# Altium footprint library Lib.PcbLib: 32 footprints (part 2 of 2)
Each footprint in its own frame and in the unit in brackets; x right, y up, seen from the top. Pads: shape width x height; smd on the part's side, far side on the other; paste and mask are expansions set on the pad; w line width, h text height; cw(c..) or ccw(c..) is an arc to the next point about the centre after c.
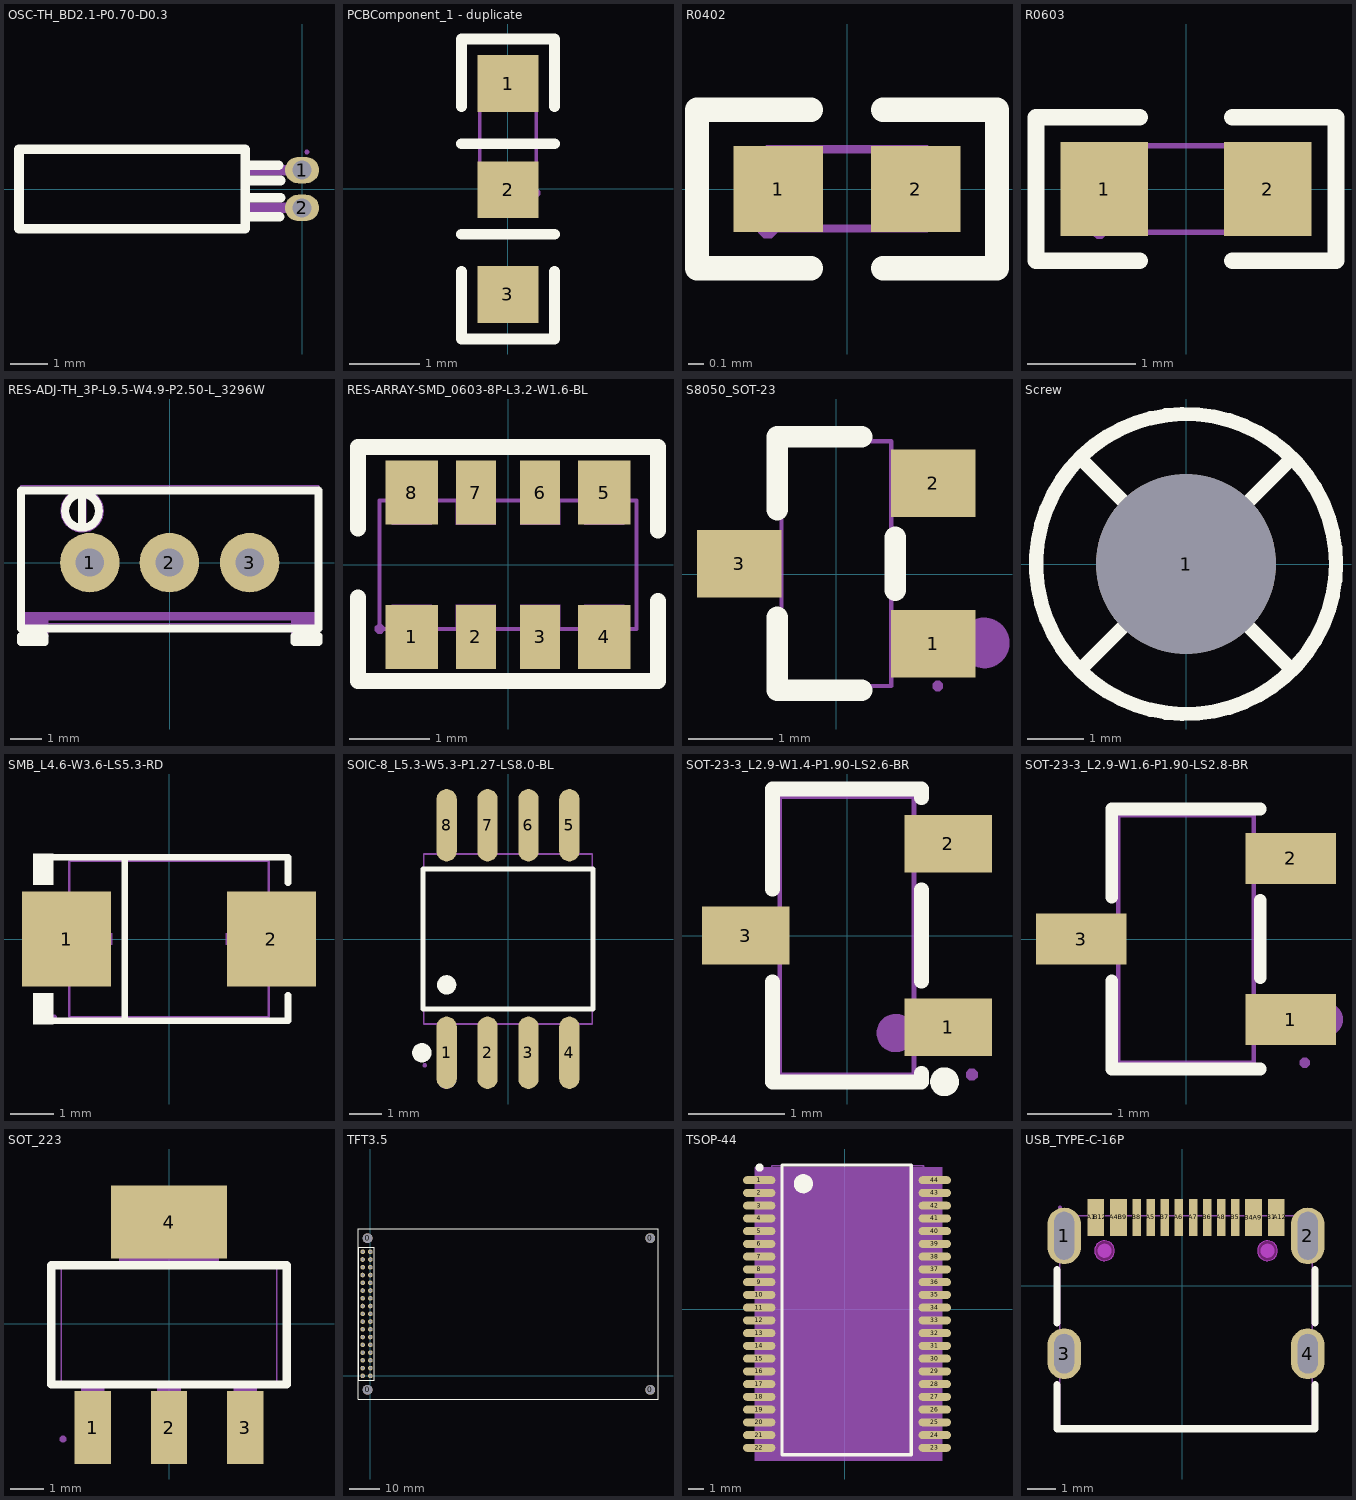
[diagram p1: the footprints below, top view; thin cyan lines are the x and y axes]

## OSC-TH_BD2.1-P0.70-D0.3 [mm]
pads (2):
  oval 0.9x0.7 hole 0.5 paste-2539.97 mask+0.05: 1(0,0.5) 2(0,-0.5)
Top Overlay:
  lines w0.254: -1.5,-0.733 -0.586,-0.733 ; -1.5,-0.23 -0.57,-0.23 ; -1.5,0.227 -0.569,0.227 ; -1.5,0.626 -0.618,0.626 ; -7.5,-1.05 -1.5,-1.05 -1.5,1.05 -7.5,1.05 -7.5,-1.05
Mechanical 4:
  region: -7.49,0.94 -7.49,-0.99 -7.46,-0.99 -7.46,0.94
  region: -1.49,-1.02 -7.49,-1.02 -7.49,-0.99 -1.49,-0.99
  region: -7.49,0.98 -1.49,0.98 -1.49,0.94 -7.49,0.94
Mechanical 5:
  lines w0.051: -7.49,-1.02 -1.49,-1.02 -1.49,0.98 -7.49,0.98 -7.49,-1.02
Mechanical 6:
  region: 0.07,0.98 0.07,1.005 0.105,1.04 0.155,1.04 0.19,1.005 0.19,0.98 0.19,0.955 0.155,0.92 0.105,0.92 0.07,0.955 0.07,0.98
Mechanical 7:
  region: -0.13,0.5 -0.13,0.554 -0.054,0.63 0.054,0.63 0.13,0.554 0.13,0.5 0.13,0.446 0.054,0.37 -0.054,0.37 -0.13,0.446 -0.13,0.5
  region: -0.13,-0.5 -0.13,-0.446 -0.054,-0.37 0.054,-0.37 0.13,-0.446 0.13,-0.5 0.13,-0.554 0.054,-0.63 -0.054,-0.63 -0.13,-0.554 -0.13,-0.5
Mechanical 8:
  region: -1.51,-0.37 -1.51,-0.63 0.13,-0.63 0.13,-0.37
  region: -1.51,0.63 -1.51,0.37 0.13,0.37 0.13,0.63

## PCBComponent_1 - duplicate [mm]
pads (3):
  rect 0.864x0.806 smd paste-100 mask+0.051: 1(0,1.496) 2(0,-0.01) 3(0,-1.496)
Top Overlay:
  lines w0.152: -0.661,-1.169 -0.661,-2.128 0.661,-2.128 0.661,-1.169 ; -0.661,-0.642 0.661,-0.642 ; -0.661,0.642 0.661,0.642 ; -0.661,1.169 -0.661,2.128 0.661,2.128 0.661,1.169
Top Paste:
  region: -0.4,-1.098 -0.172,-1.098 -0.172,-1.478 0.158,-1.478 0.158,-1.098 0.4,-1.098 0.45,-1.148 0.45,-1.938 0.4,-1.988 -0.4,-1.988 -0.45,-1.938 -0.45,-1.148
  region: -0.45,0.452 -0.45,-0.348 -0.4,-0.398 -0.172,-0.398 -0.172,-0.028 0.158,-0.028 0.158,-0.398 0.4,-0.398 0.45,-0.348 0.45,0.452 0.4,0.502 -0.4,0.502
  region: -0.4,0.388 -0.172,0.388 -0.172,0.008 0.158,0.008 0.158,0.388 0.4,0.388 0.45,0.338 0.45,-0.452 0.4,-0.502 -0.4,-0.502 -0.45,-0.452 -0.45,0.338
  region: -0.45,1.938 -0.45,1.138 -0.4,1.088 -0.172,1.088 -0.172,1.458 0.158,1.458 0.158,1.088 0.4,1.088 0.45,1.138 0.45,1.938 0.4,1.988 -0.4,1.988
Mechanical 5:
  lines w0.051: -0.4,-0.057 -0.4,1.543 0.4,1.543 0.4,-0.057 -0.4,-0.057
Mechanical 6:
  region: 0.34,-0.057 0.34,-0.082 0.375,-0.117 0.425,-0.117 0.46,-0.082 0.46,-0.057 0.46,-0.032 0.425,0.003 0.375,0.003 0.34,-0.032 0.34,-0.057
Mechanical 7:
  region: 0.4,1.543 -0.4,1.543 -0.4,1.243 0.4,1.243
  region: 0.4,-0.057 -0.4,-0.057 -0.4,0.243 0.4,0.243

## R0402 [mm]
pads (2):
  rect 0.566x0.54 smd paste-100 mask+0.051: 1(-0.433,0) 2(0.433,0)
Top Overlay:
  lines w0.152: -0.226,-0.499 -0.944,-0.499 -0.944,0.499 -0.226,0.499 ; 0.226,-0.499 0.944,-0.499 0.944,0.499 0.226,0.499
Top Paste:
  region: -0.135,-0.23 -0.135,0.23 -0.175,0.27 -0.676,0.27 -0.716,0.23 -0.716,-0.23 -0.676,-0.27 -0.175,-0.27
  region: 0.135,-0.23 0.135,0.23 0.175,0.27 0.676,0.27 0.716,0.23 0.716,-0.23 0.676,-0.27 0.175,-0.27
Mechanical 5:
  lines w0.051: -0.5,-0.25 0.5,-0.25 0.5,0.25 -0.5,0.25 -0.5,-0.25
Mechanical 6:
  region: -0.56,-0.25 -0.56,-0.275 -0.525,-0.31 -0.475,-0.31 -0.44,-0.275 -0.44,-0.25 -0.44,-0.225 -0.475,-0.19 -0.525,-0.19 -0.56,-0.225 -0.56,-0.25
Mechanical 7:
  region: -0.249,0.25 -0.249,-0.25 -0.499,-0.25 -0.499,0.25
  region: 0.251,-0.25 0.251,0.25 0.501,0.25 0.501,-0.25

## R0603 [mm]
pads (2):
  rect 0.806x0.864 smd paste-100 mask+0.051: 1(-0.753,0) 2(0.753,0)
Top Overlay:
  lines w0.152: -0.426,-0.661 -1.385,-0.661 -1.385,0.661 -0.426,0.661 ; 0.426,-0.661 1.385,-0.661 1.385,0.661 0.426,0.661
Top Paste:
  region: -0.355,0.4 -0.355,0.172 -0.735,0.172 -0.735,-0.158 -0.355,-0.158 -0.355,-0.4 -0.405,-0.45 -1.195,-0.45 -1.245,-0.4 -1.245,0.4 -1.195,0.45 -0.405,0.45
  region: 1.195,0.45 0.395,0.45 0.345,0.4 0.345,0.172 0.715,0.172 0.715,-0.158 0.345,-0.158 0.345,-0.4 0.395,-0.45 1.195,-0.45 1.245,-0.4 1.245,0.4
Mechanical 5:
  lines w0.051: -0.8,-0.4 0.8,-0.4 0.8,0.4 -0.8,0.4 -0.8,-0.4
Mechanical 6:
  region: -0.74,-0.4 -0.74,-0.425 -0.775,-0.46 -0.825,-0.46 -0.86,-0.425 -0.86,-0.4 -0.86,-0.375 -0.825,-0.34 -0.775,-0.34 -0.74,-0.375 -0.74,-0.4
Mechanical 7:
  region: 0.8,-0.4 0.8,0.4 0.5,0.4 0.5,-0.4
  region: -0.8,-0.4 -0.8,0.4 -0.5,0.4 -0.5,-0.4

## RES-ADJ-TH_3P-L9.5-W4.9-P2.50-L_3296W [mm]
pads (3):
  round 1.9 hole 0.9: 1(-2.55,0) 2(-0.01,0) 3(2.55,0)
Top Overlay:
  lines w0.254: -2.804,1.27 -2.804,1.651 ; -2.804,2.189 ccw(c-2.799,1.651) -2.794,2.189 ; -2.804,1.651 -2.804,2.032 -2.804,1.651 ; -4.75,-2.54 -4.75,-2.34 -3.988,-2.34 -3.988,-2.54 -4.75,-2.54 ; -4.75,-2.1 -4.75,2.3 4.75,2.3 4.75,-2.1 -4.75,-2.1 ; 3.988,-2.54 3.988,-2.34 4.75,-2.34 4.75,-2.54 3.988,-2.54
Mechanical 4:
  circle w0.254: c-2.794,1.651 r0.568
  region: -4.762,-2.349 -4.762,-1.587 4.763,-1.587 4.763,-2.476 3.874,-2.476 3.874,-1.841 -3.873,-1.841 -3.873,-2.349
  region: -2.921,2.159 -2.667,2.159 -2.667,1.143 -2.921,1.143
Mechanical 5:
  lines w0.051: -4.75,-2.4 -4.75,2.45 4.75,2.45 4.75,-2.4 3.937,-2.4 3.937,-1.95 -3.937,-1.95 -3.937,-2.4 -4.75,-2.4
Mechanical 6:
  region: -4.75,-2.34 -4.725,-2.34 -4.69,-2.375 -4.69,-2.425 -4.725,-2.46 -4.75,-2.46 -4.775,-2.46 -4.81,-2.425 -4.81,-2.375 -4.775,-2.34 -4.75,-2.34
Mechanical 7:
  region: 2.55,0.25 2.6,0.25 2.692,0.212 2.762,0.142 2.8,0.05 2.8,-0.05 2.762,-0.142 2.692,-0.212 2.6,-0.25 2.55,-0.25 2.5,-0.25 2.408,-0.212 2.338,-0.142 2.3,-0.05 2.3,0.05 2.338,0.142 2.408,0.212 2.5,0.25 2.55,0.25
  region: -2.55,0.25 -2.5,0.25 -2.408,0.212 -2.338,0.142 -2.3,0.05 -2.3,-0.05 -2.338,-0.142 -2.408,-0.212 -2.5,-0.25 -2.55,-0.25 -2.6,-0.25 -2.692,-0.212 -2.762,-0.142 -2.8,-0.05 -2.8,0.05 -2.762,0.142 -2.692,0.212 -2.6,0.25 -2.55,0.25
  region: -0.01,0.25 0.04,0.25 0.132,0.212 0.202,0.142 0.24,0.05 0.24,-0.05 0.202,-0.142 0.132,-0.212 0.04,-0.25 -0.01,-0.25 -0.06,-0.25 -0.152,-0.212 -0.222,-0.142 -0.26,-0.05 -0.26,0.05 -0.222,0.142 -0.152,0.212 -0.06,0.25 -0.01,0.25

## RES-ARRAY-SMD_0603-8P-L3.2-W1.6-BL [mm]
pads (8):
  rect 0.65x0.8 smd: 1(-1.2,-0.9) 4(1.2,-0.9) 5(1.2,0.9) 8(-1.2,0.9)
  rect 0.5x0.8 smd: 2(-0.4,-0.9) 3(0.4,-0.9) 6(0.4,0.9) 7(-0.4,0.9)
Top Overlay:
  lines w0.2: -1.87,-0.41 -1.87,-1.45 1.87,-1.45 1.87,-0.45 ; -1.87,0.45 -1.87,1.47 1.87,1.47 1.87,0.43
Mechanical 5:
  lines w0.051: -1.6,-0.8 1.6,-0.8 1.6,0.8 -1.6,0.8 -1.6,-0.8
Mechanical 6:
  region: -1.66,-0.8 -1.66,-0.825 -1.625,-0.86 -1.575,-0.86 -1.54,-0.825 -1.54,-0.8 -1.54,-0.775 -1.575,-0.74 -1.625,-0.74 -1.66,-0.775 -1.66,-0.8
Mechanical 7:
  region: 0.95,0.5 0.95,0.8 1.45,0.8 1.45,0.5
  region: -0.65,0.5 -0.65,0.8 -0.15,0.8 -0.15,0.5
  region: 0.95,-0.8 0.95,-0.5 1.45,-0.5 1.45,-0.8
  region: 0.15,0.5 0.15,0.8 0.65,0.8 0.65,0.5
  region: 0.15,-0.8 0.15,-0.5 0.65,-0.5 0.65,-0.8
  region: -0.65,-0.8 -0.65,-0.5 -0.15,-0.5 -0.15,-0.8
  region: -1.45,0.5 -1.45,0.8 -0.95,0.8 -0.95,0.5
  region: -1.45,-0.8 -1.45,-0.5 -0.95,-0.5 -0.95,-0.8

## S8050_SOT-23 [mm]
pads (3):
  rect 1x0.8 smd paste+0 mask+0.051: 1(1.15,-0.823) 2(1.15,1.077) 3(-1.15,0.127)
Top Overlay:
  lines w0.254: -0.7,-0.509 -0.7,-1.373 0.3,-1.373 ; -0.7,0.763 -0.7,1.627 0.3,1.627 ; 0.7,-0.187 0.7,0.441
Mechanical 4:
  circle w0.3: c1.753,-0.813 r0.15
Mechanical 5:
  lines w0.051: -0.65,-1.323 0.65,-1.323 0.65,1.577 -0.65,1.577 -0.65,-1.323
Mechanical 6:
  region: 1.2,-1.383 1.175,-1.383 1.14,-1.348 1.14,-1.298 1.175,-1.263 1.2,-1.263 1.225,-1.263 1.26,-1.298 1.26,-1.348 1.225,-1.383 1.2,-1.383
Mechanical 7:
  region: -1.2,-0.073 -1.2,0.327 -0.8,0.327 -0.8,-0.073
  region: 0.8,0.877 0.8,1.277 1.2,1.277 1.2,0.877
  region: 0.8,-1.023 0.8,-0.623 1.2,-0.623 1.2,-1.023
Mechanical 8:
  region: -0.81,-0.073 -0.81,0.327 -0.64,0.327 -0.64,-0.073
  region: 0.64,0.877 0.64,1.277 0.81,1.277 0.81,0.877
  region: 0.64,-1.023 0.64,-0.623 0.81,-0.623 0.81,-1.023

## Screw [mil]
pads (1):
  round 126 hole 126 paste-99999 mask+4: 1(0,0)
Top Overlay:
  circle w10: c0,0 r105
  lines w10: -72.5,-72.5 72.5,72.5 ; -72.5,72.5 72.5,-72.5

## SMB_L4.6-W3.6-LS5.3-RD [mm]
pads (2):
  rect 2.047x2.192 smd: 1(-2.361,0) 2(2.361,0)
Top Overlay:
  region: -2.668,1.962 -2.668,1.249 -3.125,1.249 -3.125,1.962
  region: -2.668,-1.962 -2.668,-1.249 -3.125,-1.249 -3.125,-1.962
  lines w0.152: -2.744,-1.886 2.744,-1.886 2.744,-1.299 ; -2.744,1.886 2.744,1.886 2.744,1.299 ; -1.016,-1.886 -1.016,1.886
Mechanical 4:
  region: -2.396,-0.136 -2.396,0.136 -1.31,0.136 -1.31,-0.136
  region: 2.396,-0.136 2.396,0.136 1.31,0.136 1.31,-0.136
  region: 1.989,-0.905 1.989,0.905 1.717,0.905 1.717,-0.905
Mechanical 5:
  lines w0.051: -2.3,-1.8 -2.3,1.8 2.3,1.8 2.3,-1.8 -2.3,-1.8
Mechanical 6:
  region: -2.649,-1.74 -2.625,-1.74 -2.59,-1.775 -2.59,-1.825 -2.625,-1.86 -2.649,-1.86 -2.674,-1.86 -2.709,-1.825 -2.709,-1.775 -2.674,-1.74 -2.649,-1.74
Mechanical 7:
  region: -2.649,-1.015 -2.649,1.015 -1.509,1.015 -1.509,-1.015
  region: 2.649,-1.015 2.649,1.015 1.509,1.015 1.509,-1.015

## SOIC-8_L5.3-W5.3-P1.27-LS8.0-BL [mm]
pads (8):
  oval 0.63x2.25 smd: 1(-1.905,-3.53) 2(-0.635,-3.53) 3(0.635,-3.53) 4(1.905,-3.53) 5(1.905,3.53) 6(0.635,3.53) 7(-0.635,3.53) 8(-1.905,3.53)
Top Overlay:
  circle w0.3: c-2.672,-3.53 r0.15
  circle w0.3: c-1.905,-1.424 r0.15
  lines w0.152: -2.639,-2.176 2.639,-2.176 2.639,2.176 -2.639,2.176 -2.639,-2.176
Mechanical 4:
  circle w0.3: c-1.905,-4.35 r0.15
Mechanical 5:
  lines w0.051: -2.615,-2.64 2.615,-2.64 2.615,2.64 -2.615,2.64 -2.615,-2.64
Mechanical 6:
  region: -2.585,-3.86 -2.56,-3.86 -2.525,-3.895 -2.525,-3.945 -2.56,-3.98 -2.585,-3.98 -2.61,-3.98 -2.645,-3.945 -2.645,-3.895 -2.61,-3.86 -2.585,-3.86
Mechanical 7:
  region: 1.68,3.95 1.68,3.3 2.13,3.3 2.13,3.95
  region: 0.41,3.95 0.41,3.3 0.86,3.3 0.86,3.95
  region: -0.86,3.95 -0.86,3.3 -0.41,3.3 -0.41,3.95
  region: -2.13,3.95 -2.13,3.3 -1.68,3.3 -1.68,3.95
  region: 1.68,-3.95 1.68,-3.3 2.13,-3.3 2.13,-3.95
  region: 0.41,-3.95 0.41,-3.3 0.86,-3.3 0.86,-3.95
  region: -0.86,-3.95 -0.86,-3.3 -0.41,-3.3 -0.41,-3.95
  region: -2.13,-3.95 -2.13,-3.3 -1.68,-3.3 -1.68,-3.95
Mechanical 8:
  region: 1.68,3.31 1.68,2.595 2.13,2.595 2.13,3.31
  region: 0.41,3.31 0.41,2.595 0.86,2.595 0.86,3.31
  region: -0.86,3.31 -0.86,2.595 -0.41,2.595 -0.41,3.31
  region: -2.13,3.31 -2.13,2.595 -1.68,2.595 -1.68,3.31
  region: 1.68,-3.31 1.68,-2.595 2.13,-2.595 2.13,-3.31
  region: 0.41,-3.31 0.41,-2.595 0.86,-2.595 0.86,-3.31
  region: -0.86,-3.31 -0.86,-2.595 -0.41,-2.595 -0.41,-3.31
  region: -2.13,-3.31 -2.13,-2.595 -1.68,-2.595 -1.68,-3.31

## SOT-23-3_L2.9-W1.4-P1.90-LS2.6-BR [mm]
pads (3):
  rect 0.91x0.6 smd: 1(1.055,-0.955) 2(1.055,0.955) 3(-1.055,0)
Top Overlay:
  circle w0.15: c1.016,-1.524 r0.075
  lines w0.152: -0.776,-0.48 -0.776,-1.526 0.776,-1.526 0.776,-1.435 ; -0.776,0.48 -0.776,1.526 0.776,1.526 0.776,1.435 ; 0.776,-0.475 0.776,0.475
Mechanical 4:
  circle w0.2: c0.508,-1.016 r0.1
Mechanical 5:
  lines w0.051: -0.7,-1.45 0.7,-1.45 0.7,1.45 -0.7,1.45 -0.7,-1.45
Mechanical 6:
  region: 1.24,-1.45 1.24,-1.425 1.275,-1.39 1.325,-1.39 1.36,-1.425 1.36,-1.45 1.36,-1.475 1.325,-1.51 1.275,-1.51 1.24,-1.475 1.24,-1.45
Mechanical 7:
  region: -1.3,0.225 -0.95,0.225 -0.95,-0.225 -1.3,-0.225
  region: 1.3,1.18 0.95,1.18 0.95,0.73 1.3,0.73
  region: 1.3,-0.73 0.95,-0.73 0.95,-1.18 1.3,-1.18
Mechanical 8:
  region: -0.96,0.225 -0.69,0.225 -0.69,-0.225 -0.96,-0.225
  region: 0.96,1.18 0.69,1.18 0.69,0.73 0.96,0.73
  region: 0.96,-0.73 0.69,-0.73 0.69,-1.18 0.96,-1.18

## SOT-23-3_L2.9-W1.6-P1.90-LS2.8-BR [mm]
pads (3):
  rect 1.07x0.6 smd: 1(1.235,-0.95) 2(1.235,0.95) 3(-1.235,0)
Top Overlay:
  lines w0.152: -0.876,-0.495 -0.876,-1.536 0.876,-1.536 ; -0.876,0.495 -0.876,1.536 0.876,1.536 ; 0.876,-0.455 0.876,0.455
Mechanical 4:
  circle w0.2: c1.651,-0.95 r0.1
Mechanical 5:
  lines w0.051: -0.8,-1.46 0.8,-1.46 0.8,1.46 -0.8,1.46 -0.8,-1.46
Mechanical 6:
  region: 1.4,-1.52 1.425,-1.52 1.46,-1.485 1.46,-1.435 1.425,-1.4 1.4,-1.4 1.375,-1.4 1.34,-1.435 1.34,-1.485 1.375,-1.52 1.4,-1.52
Mechanical 7:
  region: -0.95,-0.2 -0.95,0.2 -1.4,0.2 -1.4,-0.2
  region: 0.95,0.75 0.95,1.15 1.4,1.15 1.4,0.75
  region: 0.95,-1.15 0.95,-0.75 1.4,-0.75 1.4,-1.15
Mechanical 8:
  region: -0.96,-0.2 -0.96,0.2 -0.79,0.2 -0.79,-0.2
  region: 0.79,0.75 0.79,1.15 0.96,1.15 0.96,0.75
  region: 0.79,-1.15 0.79,-0.75 0.96,-0.75 0.96,-1.15

## SOT_223 [mil]
pads (4):
  rect 43.3x86.6 smd paste+0 mask+2: 1(-90.5,-123.05) 2(0,-123.05) 3(90.6,-123.05)
  rect 137.8x86.6 smd paste+0 mask+2: 4(0,120.95)
Top Overlay:
  lines w10: -139.8,-71.95 139.8,-71.95 139.8,69.85 -139.8,69.85 -139.8,-71.95
Mechanical 4:
  circle w10: c-90,-146.05 r5
Mechanical 5:
  lines w2: -128,-69.95 -128,67.85 128,67.85 128,-69.95 -128,-69.95
Mechanical 6:
  region: -122.1,-136.85 -122.1,-138.47 -124.38,-140.75 -127.62,-140.75 -129.9,-138.47 -129.9,-136.85 -129.9,-135.24 -127.62,-132.95 -124.38,-132.95 -122.1,-135.24 -122.1,-136.85
Mechanical 7:
  region: -59.1,136.75 59.1,136.75 59.1,101.35 -59.1,101.35
  region: -104.3,-103.45 -76.8,-103.45 -76.8,-138.85 -104.3,-138.85
  region: -13.8,-103.45 13.8,-103.45 13.8,-138.85 -13.8,-138.85
  region: 76.8,-103.45 104.3,-103.45 104.3,-138.85 76.8,-138.85
Mechanical 8:
  region: -59.1,101.75 59.1,101.75 59.1,67.45 -59.1,67.45
  region: -104.3,-69.55 -76.8,-69.55 -76.8,-103.85 -104.3,-103.85
  region: -13.8,-69.55 13.8,-69.55 13.8,-103.85 -13.8,-103.85
  region: 76.8,-69.55 104.3,-69.55 104.3,-103.85 76.8,-103.85

## TFT3.5 [mil]
pads (38):
  round 125.98 hole 125.98 unplated: 0(-35.98,-179.8) 0(-35.98,1774.92) 0(3608.11,-179.8) 0(3608.11,1774.92)
  round 60 hole 36: 1(0,0) 2(-100,0) 3(0,100) 4(-100,100) 5(0,200) 6(-100,200) 7(0,300) 8(-100,300) 9(0,400) 10(-100,400) 11(0,500) 12(-100,500) 13(0,600) 14(-100,600) 15(0,700) 16(-100,700) 17(0,800) 18(-100,800) 19(0,900) 20(-100,900) 21(0,1000) 22(-100,1000) 23(0,1100) 24(-100,1100) 25(0,1200) 26(-100,1200) 27(0,1300) 28(-100,1300) 29(0,1400) 30(-100,1400) 31(0,1500) 32(-100,1500) 33(0,1600) 34(-100,1600)
Top Overlay:
  lines w10: -160,-299.88 3708.11,-299.88 3708.11,1895 -160,1895 -160,-299.88 ; -148.43,-59.06 48.43,-59.06 48.43,1659.06 -148.43,1659.06 -148.43,-59.06

## TSOP-44 [mil]
pads (44):
  oval 80x20 smd: 1(-211.01,318.72) 2(-211.01,287.22) 3(-211.01,255.72) 4(-211.01,224.23) 5(-211.01,192.73) 6(-211.01,161.24) 7(-211.01,129.74) 8(-211.01,98.24) 9(-211.01,66.75) 10(-211.01,35.25) 11(-211.01,3.76) 12(-211.01,-27.74) 13(-211.01,-59.24) 14(-211.01,-90.73) 15(-211.01,-122.23) 16(-211.01,-153.72) 17(-211.01,-185.22) 18(-211.01,-216.72) 19(-211.01,-248.23) 20(-211.01,-279.72) 21(-211.01,-311.22) 22(-211.01,-342.72) 23(222.99,-342.72) 24(222.99,-311.22) 25(222.99,-279.72) 26(222.99,-248.23) 27(223.01,-216.72) 28(223.01,-185.22) 29(223.01,-153.72) 30(223.01,-122.23) 31(223.01,-90.73) 32(223.01,-59.24) 33(223.01,-27.74) 34(223.01,3.76) 35(223.01,35.25) 36(223.01,66.75) 37(223.01,98.24) 38(223.01,129.74) 39(223.01,161.24) 40(223.01,192.73) 41(223.01,224.23) 42(223.01,255.72) 43(223.01,287.22) 44(223.01,318.72)
Top Overlay:
  circle w23.62: c-101.81,310 r11.81
  circle w9.84: c-209.92,350 r4.92
  lines w7.87: -155,-360 165,-360 165,356.12 -155,356.12 -155,-360
Mechanical 1:
  region: 241.5,350.6 -221.5,350.6 -221.5,-374.6 241.5,-374.6
Mechanical 16:
  circle w3.94: c-111.2,319.11 r19.68
  lines w3.94: -180,-345 195,-345 195,354.54 -180,354.54 -180,-345

## USB_TYPE-C-16P [mm]
pads (20):
  oval 1.2x2 hole 0.7 slot 1.7 at 90 deg paste-2539.97 mask+0.051: 1(-4.193,1.765) 2(4.447,1.765)
  oval 1.2x1.8 hole 0.7 slot 1.4 at 90 deg paste-2539.97 mask+0.051: 3(-4.193,-2.415) 4(4.447,-2.415)
  rect 0.3x1.3 smd paste-100 mask+0.05: A1(-3.223,2.415) A4(-2.423,2.415) A5(-1.123,2.415) A6(-0.123,2.415) A7(0.377,2.415) A8(1.377,2.415) A9(2.677,2.415) A12(3.477,2.415) B1(3.177,2.415) B4(2.377,2.415) B5(1.877,2.415) B6(0.877,2.415) B7(-0.623,2.415) B8(-1.623,2.415) B9(-2.123,2.415) B12(-2.923,2.415)
Top Overlay:
  lines w0.254: -4.445,-3.507 -4.445,-5.08 4.699,-5.08 4.699,-3.507 ; -4.445,-1.323 -4.445,0.573 ; 4.699,-1.323 4.699,0.573
Top Paste:
  drawing of 16 lines, arcs and shapes, not listed
Keep-Out Layer:
  circle w0.003: c3.017,1.235 r0.35
  circle w0.003: c-2.763,1.235 r0.35
  region: 3.367,1.235 3.367,1.165 3.314,1.037 3.215,0.938 3.087,0.885 2.947,0.885 2.819,0.938 2.72,1.037 2.667,1.165 2.667,1.235 2.667,1.305 2.72,1.433 2.819,1.532 2.947,1.585 3.087,1.585 3.215,1.532 3.314,1.433 3.367,1.305 3.367,1.235
  region: 3.367,1.235 3.367,1.165 3.314,1.037 3.215,0.938 3.087,0.885 2.947,0.885 2.819,0.938 2.72,1.037 2.667,1.165 2.667,1.235 2.667,1.305 2.72,1.433 2.819,1.532 2.947,1.585 3.087,1.585 3.215,1.532 3.314,1.433 3.367,1.305 3.367,1.235
  region: -2.413,1.235 -2.413,1.165 -2.466,1.037 -2.565,0.938 -2.693,0.885 -2.833,0.885 -2.961,0.938 -3.06,1.037 -3.113,1.165 -3.113,1.235 -3.113,1.305 -3.06,1.433 -2.961,1.532 -2.833,1.585 -2.693,1.585 -2.565,1.532 -2.466,1.433 -2.413,1.305 -2.413,1.235
  region: -2.413,1.235 -2.413,1.165 -2.466,1.037 -2.565,0.938 -2.693,0.885 -2.833,0.885 -2.961,0.938 -3.06,1.037 -3.113,1.165 -3.113,1.235 -3.113,1.305 -3.06,1.433 -2.961,1.532 -2.833,1.585 -2.693,1.585 -2.565,1.532 -2.466,1.433 -2.413,1.305 -2.413,1.235
Mechanical 1:
  circle w0.003: c3.017,1.235 r0.35
  circle w0.003: c-2.763,1.235 r0.35
Mechanical 4:
  circle w0.25: c3.017,1.235 r0.125
  circle w0.25: c-2.763,1.235 r0.125
Mechanical 5:
  lines w0.051: -4.343,-5.08 4.597,-5.08 4.597,2.47 -4.343,2.47 -4.343,-5.08
Mechanical 6:
  region: -4.283,2.77 -4.283,2.745 -4.318,2.71 -4.368,2.71 -4.403,2.745 -4.403,2.77 -4.403,2.795 -4.368,2.83 -4.318,2.83 -4.283,2.795 -4.283,2.77
Mechanical 7:
  region: 3.326,2.77 3.526,2.77 3.526,1.77 3.326,1.77
  region: 3.128,2.77 3.328,2.77 3.328,1.77 3.128,1.77
  region: 2.524,2.77 2.724,2.77 2.724,1.77 2.524,1.77
  region: 2.325,2.77 2.525,2.77 2.525,1.77 2.325,1.77
  region: -3.275,2.77 -3.075,2.77 -3.075,1.77 -3.275,1.77
  region: -3.076,2.77 -2.876,2.77 -2.876,1.77 -3.076,1.77
  region: -2.475,2.77 -2.275,2.77 -2.275,1.77 -2.475,1.77
  region: -2.276,2.77 -2.076,2.77 -2.076,1.77 -2.276,1.77
  region: -1.723,2.77 -1.523,2.77 -1.523,1.77 -1.723,1.77
  region: -1.223,2.77 -1.023,2.77 -1.023,1.77 -1.223,1.77
  region: -0.723,2.77 -0.523,2.77 -0.523,1.77 -0.723,1.77
  region: -0.223,2.77 -0.023,2.77 -0.023,1.77 -0.223,1.77
  region: 0.277,2.77 0.477,2.77 0.477,1.77 0.277,1.77
  region: 0.777,2.77 0.977,2.77 0.977,1.77 0.777,1.77
  region: 1.777,2.77 1.977,2.77 1.977,1.77 1.777,1.77
  region: 1.277,2.77 1.477,2.77 1.477,1.77 1.277,1.77
  region: 4.297,-2.015 4.597,-2.015 4.597,-2.815 4.297,-2.815
  region: -4.343,-2.015 -4.043,-2.015 -4.043,-2.815 -4.343,-2.815
  region: 4.297,2.315 4.597,2.315 4.597,1.215 4.297,1.215
  region: -4.343,2.315 -4.043,2.315 -4.043,1.215 -4.343,1.215